# Altium schematic symbol library OPTO_SMD.SchLib: 1 symbol
Pins are listed as number, name and electrical type; pins without a type are passive.

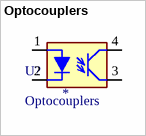
[diagram p0: symbol Optocouplers]

## Optocouplers
designator U?
SMD-4 Optocouplers - Phototransistor Output ROHS; LCSC: *
footprint OPTO_SMD
pins: 1 A, 2 C, 3 E, 4 C